# EAGLE library part WE-SENSOR_BME280 (library BME280-Breakout_v10)
Bosch BME280 Humidity and Pressure Sensor
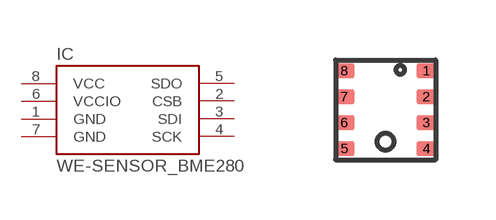
[diagram p1: symbol with the pads of WE-SENSOR_CAVITY_MEMS; footprint WE-SENSOR_CAVITY_MEMS]

Designator prefix IC

## WE-SENSOR_BME280  [WE-SENSOR_CAVITY_MEMS]
1  GND  pwr
2  CSB  in
3  SDI
4  SCK
5  SDO
6  VCCIO  pwr
7  GND  pwr
8  VCC  pwr

## Footprint WE-SENSOR_CAVITY_MEMS (pad centres in mm)
smd 0.5 x 0.35: 1 1.025,0.975; 2 1.025,0.325; 3 1.025,-0.325; 4 1.025,-0.975; 5 -1.025,-0.975; 6 -1.025,-0.325; 7 -1.025,0.325; 8 -1.025,0.975